# Altium integrated library UF5408.IntLib: 1 symbol
Pins are listed as number, name and electrical type; pins without a type are passive.

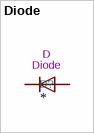
[diagram p0: symbol Diode]

## Diode
designator D?  value Diode  Reference: D
Datasheet: https://diotec.com/de/produktliste/D.html; ki_keywords: Diode; ki_description: Diode
footprint DO-201
pins: A, K